# Altium schematic symbol library IND_SMD.SchLib: 4 symbols
Pins are listed as number, name and electrical type; pins without a type are passive.

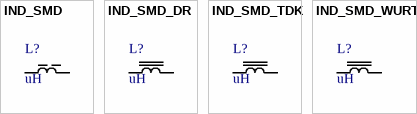
[diagram p0: symbols IND_SMD to IND_SMD_WURTH]

## IND_SMD
designator L?, comment uH
SMT Inductor; Value: uH
footprint IND 0201_0603 (Inductor, 2-Leads, Body 0.60x0.30mm, IPC Medium Density)
footprint IND 0402_1005 RF WW (Chip Inductor, 2-Leads, Body 1.00x0.50mm, IPC High Density)
footprint IND 0603_1608 RF WW (Chip Inductor, 2-Leads, Body 1.65x0.99mm, IPC Medium Density)
footprint L0402
footprint L0603
footprint L0805
footprint L1008 (Chip Inductance, 2-leads, Body 2.5x2.1mm, IPC Medium Density)
footprint L1206
footprint L1210
pins: 1, 2

## IND_SMD_DR
designator L?, comment uH
Value: uH
footprint Dr DBS-135
footprint Dr DBS-187
footprint Dr DRH-74
footprint Dr DRH-104
footprint Dr DRH-125 (SIR1205)
footprint Dr IFSC-1515AH
footprint Dr LQH44 (4x4x1.65mm)
footprint Dr SD-73 (7x7x3.2mm)
footprint Dr SD-75 (7.3x7.3x5mm)
footprint Dr SMPI12065
footprint IND 3X3MM
footprint IND 5X5MM
footprint IND 7X7MM
footprint IND 10X11MM
footprint IND 12X12MM
footprint LM_24 (INDUCTOR, multi size, from 2x2 to 4x4mm)
footprint LM_25 (INDUCTOR, multi size, FROM 2X2 TO 5X5mm)
footprint LM_57 (INDUCTOR, multi size, from 5x5 to 7x7)
footprint LM_810 (INDUCTOR, multi size, FROM 8X8 TO 10X10)
footprint LPD3015 (INDUCTOR, coupled, 3X3X1.5mm)
footprint LTOR_25X10SMD (INDUCTOR, TORIOD, 25.0X10.0mm BENDED)
footprint L_2 (INDUCTOR, 2.0X2.0mm)
footprint L_3_CDRH2D16 (INDUCTOR, 3.0X3.2mm, CDRH2D16)
footprint L_4 (INDUCTOR, 3.8x3.8mm, 3.7x3.5mm, WURTH 744031470)
footprint L_4_CDR4H28 (INDUCTOR, 4X4X2.8mm, CDR4H28)
footprint L_4_H2 (INDUCTOR, 4.1X4.1X2.1mm, VLCF4020)
footprint L_4_H3_A (INDUCTOR, 4X4X2.8mm)
footprint L_5 (INDUCTOR, 5.0X5.0mm)
footprint L_5A (INDUCTOR, 5.0X5.0mm)
footprint L_5_H2 (INDUCTOR, 5.0X5.0X2mm)
footprint L_6 (INDUCTOR, 6.0X6.0mm, SRP6030, XAL6030)
footprint L_7 (INDUCTOR, 7.2X6.9mm, 7.1X6.5mm, SPM6530)
footprint L_7X5 (INDUCTOR, 6.6X4.4X3mm, SDE6603)
footprint L_7X6 (Precision Wire Wound Inductor, 2-Leads, Body 7.5x6.5x3mm, IPC Medium Density)
footprint L_8 (INDUCTOR, 7.5X7.5mm, 8x8, DR74)
footprint L_9X8 (INDUCTOR, 9X7.7X1.6mm 2700 SERIES MURATA)
footprint L_10 (INDUCTOR, 10.5X11.5mm, CDRH104R, MSS1038 (coilcraft))
footprint L_10A (INDUCTOR, 10.5X11.5mm, CDRH104R, MSS1038 (coilcraft))
footprint L_11X7 (INDUCTOR, 7.5X10.8X7.2mm, SLC1175)
footprint L_12 (INDUCTOR, 13.5x12.5mm, DR125, CDRH127, D128C 931AS)
footprint L_13X10 (INDUCTOR, 13X9.5mm, 12.7X10mm)
footprint L_14 (INDUCTOR, 13.5x12.5mm, DR125, CDRH127, D128C 931AS)
footprint L_18X15 (INDUCTOR, 18.5X15.24mm)
footprint L_CDRH2 (CDRH2D18, 3.2x3.2x2.0mm)
footprint L_CDRH5 (INDUCTOR, 6X6X2mm, CDRH5D18)
footprint TAIYO YUDEN MAMK2520T1R0M (Inductor, 2-Leads, Body 2.50x2.00mm, IPC Medium Density)
footprint L_XAL1010 (Inductor, XAL1010, 10.50x11.3x10mm)
footprint L_XAL1030 (Inductor, XAL1030, 10.50x11.3x3.1mm)
footprint L_XAL1060 (Inductor, XAL1060, 10.50x11.3x6.0mm)
footprint L_XAL1350 (Inductor, XAL1350, 13x14x5mm)
footprint L_XAL1510 (Inductor, XAL1510, 15.2x16.2x11mm)
footprint L_XAL1513 (Inductor, XAL1513, 15.2x16.2x13mm)
footprint L_XAL1580 (Inductor, XAL1580, 15.2x16.2x8.2mm)
footprint L_XAL4014 (Inductor, XAL4014, 4.0x4.0x1.4mm)
footprint L_XAL4020 (Inductor, XAL4020, 4.0x4.0x2.1mm)
footprint L_XAL4030 (Inductor, XAL4030, 4.0x4.0x3.1mm)
footprint L_XAL4040 (Inductor, XAL4030, 4.0x4.0x4.1mm)
footprint L_XAL5020 (Inductor, XAL5020, 5.3x5.5x2.0mm)
footprint L_XAL5030 (Inductor, XAL5030, 5.3x5.5x3.1mm)
footprint L_XAL5050 (Inductor, XAL5050, 5.3x5.5x5.1mm)
footprint L_XAL6020 (Inductor, XAL6020, 6.36x6.56x2.1mm)
footprint L_XAL6030 (Inductor, XAL6030, 6.36x6.56x3.1mm)
footprint L_XAL6060 (Inductor, XAL6060, 6.36x6.56x6.1mm)
footprint L_XAL7020 (Inductor, XAL7020, 7.5x7.5x2.1mm)
footprint L_XAL7030 (Inductor, XAL7030, 7.5x7.5x3.1mm)
footprint L_XAL7070 (Inductor, XAL7070, 7.5x7.5x7.0mm)
footprint L_XAL8080 (Inductor, XAL8080, 8.1x8.6x8mm)
pins: 1, 2

## IND_SMD_TDK
designator L?, comment uH
Value: uH
footprint TDK VLS252012HBX-1 (Inductor, 2-Leads, Body 2.50x2.00mm, IPC Medium Density)
footprint TDK VLS252012CX (Inductor, 2-Leads, Body 2.50x2.00mm, IPC Medium Density)
footprint TDK VLS252010HBX-1 (Inductor, 2-Leads, Body 2.50x2.00mm, IPC Medium Density)
footprint TDK VLS252010CX (Chip Inductor, 2-Leads, Body 2.50x2.00mm, IPC Medium Density)
footprint TDK VLS201612HBX-1 (Inductor, 2-Leads, Body 2.00x1.60mm, IPC Medium Density)
footprint TDK VLS201612CX (Inductor, 2-Leads, Body 2.00x1.60mm, IPC Medium Density)
footprint TDK SPM3012-LR (Inductor, 2-Leads, Body 3.00x3.00mm, IPC Medium Density)
footprint TDK SPM3020-LR (Inductor, 2-Leads, Body 3.00x3.00mm, IPC Medium Density)
footprint TDK VLCF4024-2 (Precision Wire Wound Inductor, 2-Leads, Body 4.00x4.00mm, IPC Medium Density)
footprint TDK VLCF4028-2 (Precision Wire Wound Inductor, 2-Leads, Body 4.00x4.00mm, IPC Medium Density)
footprint TDK SLF10145 (Precision Wire Wound Inductor, 2-Leads, Body 10.10x10.10mm, IPC Medium Density)
footprint TDK SLF10165 (Precision Wire Wound Inductor, 2-Leads, Body 10.10x10.10mm, IPC Medium Density)
footprint TDK SLF12555 (Precision Wire Wound Inductor, 2-Leads, Body 12.50x12.50mm, IPC Medium Density)
footprint TDK SLF12565 (Precision Wire Wound Inductor, 2-Leads, Body 12.50x12.50mm, IPC Medium Density)
footprint TDK SLF12575 (Precision Wire Wound Inductor, 2-Leads, Body 12.50x12.50mm, IPC Medium Density)
footprint TDK SPM3012 (Inductor, 2-Leads, Body 3.00x3.00mm, IPC Medium Density)
pins: 1, 2

## IND_SMD_WURTH
designator L?, comment uH
Value: uH
footprint WURTH 5040 (Wire Wound Inductor, 2-Leads, Body 5.60x5.30mm, IPC Medium Density)
footprint WURTH WE-HCF 14.5MM (SMD High Current Inductor, body 21.8x14.2mm)
footprint WURTH WE-HCI 7040
footprint WURTH WE-HCI 7050
pins: 1, 2